# Altium schematic symbol library FreeEMS Schematic Library.SchLib: 15 symbols
Pins are listed as number, name and electrical type; pins without a type are passive.

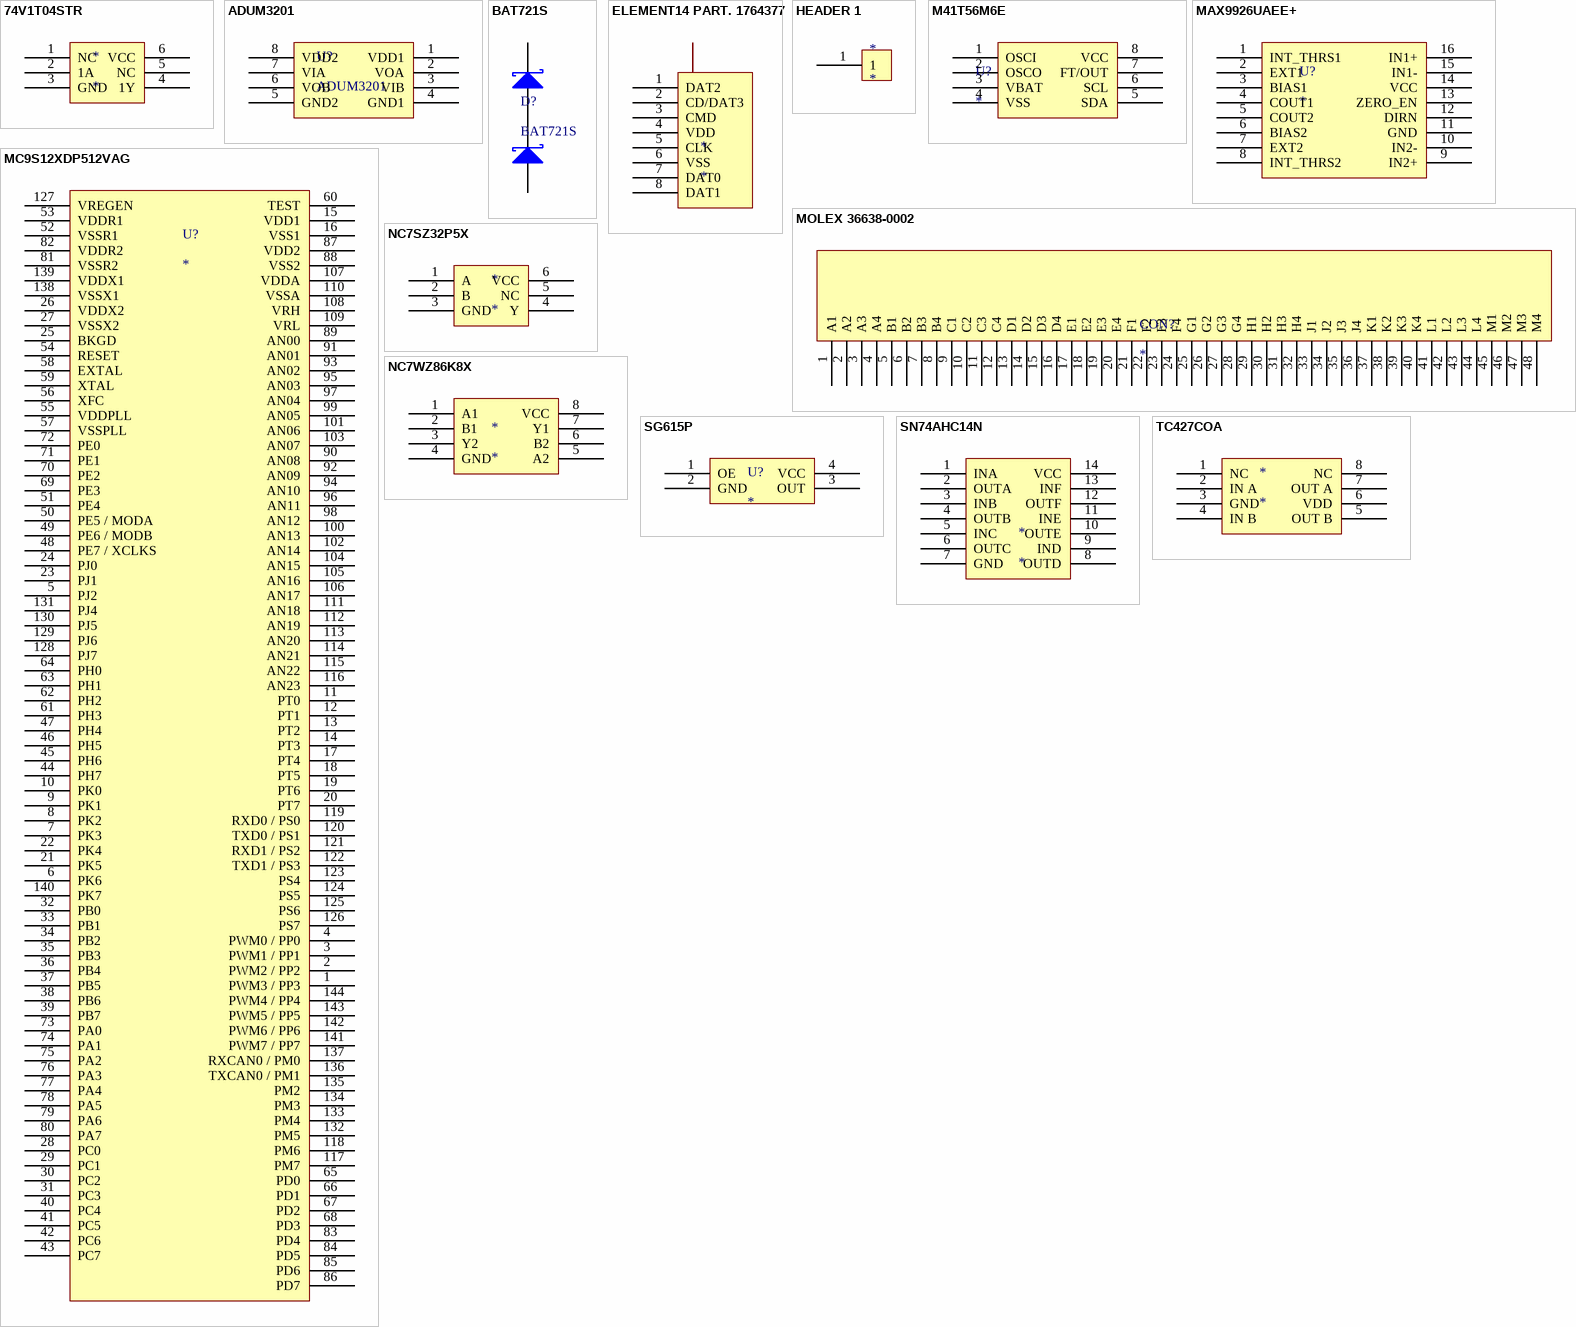
[diagram p0: symbols 74V1T04STR to TC427COA]

## 74V1T04STR
designator *
pins: 1 NC, 2 1A, 3 GND, 4 1Y, 5 NC, 6 VCC

## ADUM3201
designator U?
pins: 1 VDD1, 2 VOA, 3 VIB, 4 GND1, 5 GND2, 6 VOB, 7 VIA, 8 VDD2

## BAT721S
designator D?
DUAL SCHOTTKY DIODE
pins: 1 A, 2 K, 3 A2, 3 K1

## ELEMENT14 PART. 1764377
designator *
pins: 1 DAT2, 2 CD/DAT3, 3 CMD, 4 VDD, 5 CLK, 6 VSS, 7 DAT0, 8 DAT1

## HEADER 1
designator *
pins: 1

## M41T56M6E
designator U?
pins: 1 OSCI, 2 OSCO, 3 VBAT, 4 VSS, 5 SDA, 6 SCL, 7 FT/OUT, 8 VCC

## MAX9926UAEE+
designator U?
pins: 1 INT_THRS1, 2 EXT1, 3 BIAS1, 4 COUT1, 5 COUT2, 6 BIAS2, 7 EXT2, 8 INT_THRS2, 9 IN2+, 10 IN2-, 11 GND, 12 DIRN, 13 ZERO_EN, 14 VCC, 15 IN1-, 16 IN1+

## MC9S12XDP512VAG
designator U?
pins: 1 PWM3 / PP3, 2 PWM2 / PP2, 3 PWM1 / PP1, 4 PWM0 / PP0, 5 PJ2, 6 PK6, 7 PK3, 8 PK2, 9 PK1, 10 PK0, 11 PT0, 12 PT1, 13 PT2, 14 PT3, 15 VDD1, 16 VSS1, 17 PT4, 18 PT5, 19 PT6, 20 PT7, 21 PK5, 22 PK4, 23 PJ1, 24 PJ0, 25 BKGD, 26 VDDX2, 27 VSSX2, 28 PC0, 29 PC1, 30 PC2, 31 PC3, 32 PB0, 33 PB1, 34 PB2, 35 PB3, 36 PB4, 37 PB5, 38 PB6, 39 PB7, 40 PC4, 41 PC5, 42 PC6, 43 PC7, 44 PH7, 45 PH6, 46 PH5, 47 PH4, 48 PE7 / XCLKS, 49 PE6 / MODB, 50 PE5 / MODA, 51 PE4, 52 VSSR1, 53 VDDR1, 54 RESET, 55 VDDPLL, 56 XFC, 57 VSSPLL, 58 EXTAL, 59 XTAL, 60 TEST, 61 PH3, 62 PH2, 63 PH1, 64 PH0, 65 PD0, 66 PD1, 67 PD2, 68 PD3, 69 PE3, 70 PE2, 71 PE1, 72 PE0, 73 PA0, 74 PA1, 75 PA2, 76 PA3, 77 PA4, 78 PA5, 79 PA6, 80 PA7, 81 VSSR2, 82 VDDR2, 83 PD4, 84 PD5, 85 PD6, 86 PD7, 87 VDD2, 88 VSS2, 89 AN00, 90 AN08, 91 AN01, 92 AN09, 93 AN02, 94 AN10, 95 AN03, 96 AN11, 97 AN04, 98 AN12, 99 AN05, 100 AN13, 101 AN06, 102 AN14, 103 AN07, 104 AN15, 105 AN16, 106 AN17, 107 VDDA, 108 VRH, 109 VRL, 110 VSSA, 111 AN18, 112 AN19, 113 AN20, 114 AN21, 115 AN22, 116 AN23, 117 PM7, 118 PM6, 119 RXD0 / PS0, 120 TXD0 / PS1, 121 RXD1 / PS2, 122 TXD1 / PS3, 123 PS4, 124 PS5, 125 PS6, 126 PS7, 127 VREGEN, 128 PJ7, 129 PJ6, 130 PJ5, 131 PJ4, 132 PM5, 133 PM4, 134 PM3, 135 PM2, 136 TXCAN0 / PM1, 137 RXCAN0 / PM0, 138 VSSX1, 139 VDDX1, 140 PK7, 141 PWM7 / PP7, 142 PWM6 / PP6, 143 PWM5 / PP5, 144 PWM4 / PP4

## MOLEX 36638-0002
designator CON?
MOLEX 36638-0002
pins: 1 A1, 2 A2, 3 A3, 4 A4, 5 B1, 6 B2, 7 B3, 8 B4, 9 C1, 10 C2, 11 C3, 12 C4, 13 D1, 14 D2, 15 D3, 16 D4, 17 E1, 18 E2, 19 E3, 20 E4, 21 F1, 22 F2, 23 F3, 24 F4, 25 G1, 26 G2, 27 G3, 28 G4, 29 H1, 30 H2, 31 H3, 32 H4, 33 J1, 34 J2, 35 J3, 36 J4, 37 K1, 38 K2, 39 K3, 40 K4, 41 L1, 42 L2, 43 L3, 44 L4, 45 M1, 46 M2, 47 M3, 48 M4

## NC7SZ32P5X
designator *
pins: 1 A, 2 B, 3 GND, 4 Y, 5 NC, 6 VCC

## NC7WZ86K8X
designator *
pins: 1 A1, 2 B1, 3 Y2, 4 GND, 5 A2, 6 B2, 7 Y1, 8 VCC

## SG615P
designator U?
pins: 1 OE, 2 GND, 3 OUT, 4 VCC

## SN74AHC14N
designator *
pins: 1 INA, 2 OUTA, 3 INB, 4 OUTB, 5 INC, 6 OUTC, 7 GND, 8 OUTD, 9 IND, 10 OUTE, 11 INE, 12 OUTF, 13 INF, 14 VCC

## TC427COA
designator *
pins: 1 NC, 2 IN A, 3 GND, 4 IN B, 5 OUT B, 6 VDD, 7 OUT A, 8 NC

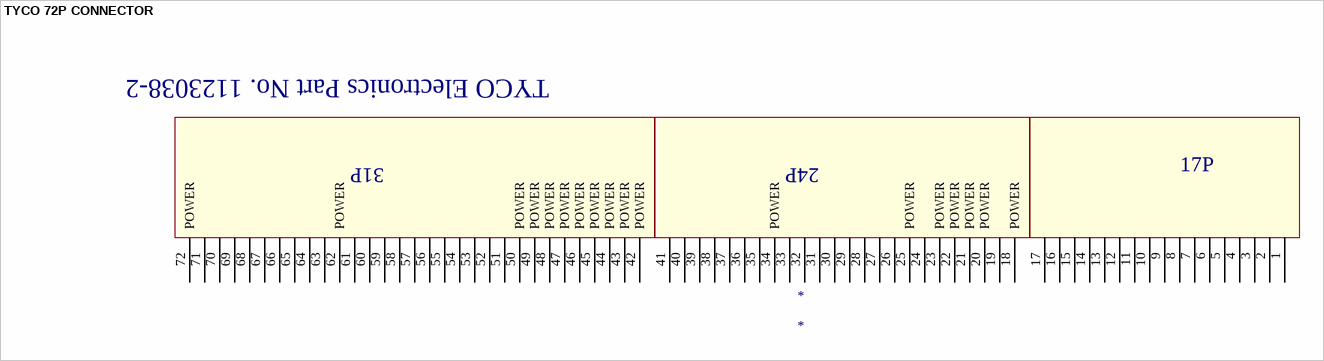
[diagram p1: symbol TYCO 72P CONNECTOR]

## TYCO 72P CONNECTOR
designator *
pins: 1, 2, 3, 4, 5, 6, 7, 8, 9, 10, 11, 12, 13, 14, 15, 16, 17, 18 POWER, 19, 20 POWER, 21 POWER, 22 POWER, 23 POWER, 24, 25 POWER, 26, 27, 28, 29, 30, 31, 32, 33, 34 POWER, 35, 36, 37, 38, 39, 40, 41, 42 POWER, 43 POWER, 44 POWER, 45 POWER, 46 POWER, 47 POWER, 48 POWER, 49 POWER, 50 POWER, 51, 52, 53, 54, 55, 56, 57, 58, 59, 60, 61, 62 POWER, 63, 64, 65, 66, 67, 68, 69, 70, 71, 72 POWER
text: TYCO Electronics Part No. 1123038-2; 31P; 24P; 17P